# Altium schematic symbol library CY8C4014LQI-422.SchLib: 1 symbol
Pins are listed as number, name and electrical type; pins without a type are passive.

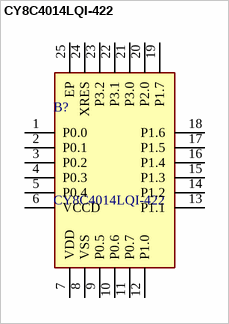
[diagram p0: symbol CY8C4014LQI-422]

## CY8C4014LQI-422
designator B?
MCU 32-bit ARM Cortex M0 RISC 16KB Flash 2.5V/3.3V/5V 24-Pin QFN EP Tray; Manufacturer_Name: Infineon; Geometry.Height: 0.6mm; Manufacturer_Part_Number: CY8C4014LQI-422; Mouser Part Number: 727-CY8C4014LQI-422; Mouser Price/Stock: https://www.mouser.co.uk/ProductDetail/Infineon-Technologies/CY8C4014LQI-422?qs=h2odU9YHRxwBFdYZzj5f5w%3D%3D; Arrow Part Number: CY8C4014LQI-422; Arrow Price/Stock: https://www.arrow.com/en/products/cy8c4014lqi-422/cypress-semiconductor; Datasheet Link: https://www.cypress.com/file/138646/download
footprint QFN50P400X400X60-25N-D
pins: 1 P0.0, 2 P0.1, 3 P0.2, 4 P0.3, 5 P0.4, 6 VCCD, 7 VDD, 8 VSS, 9 P0.5, 10 P0.6, 11 P0.7, 12 P1.0, 13 P1.1, 14 P1.2, 15 P1.3, 16 P1.4, 17 P1.5, 18 P1.6, 19 P1.7, 20 P2.0, 21 P3.0, 22 P3.1, 23 P3.2, 24 XRES, 25 EP